# EAGLE library part MRF206 (library switch-nkk)
Rotary Switch 6 Pos, 2 Pole
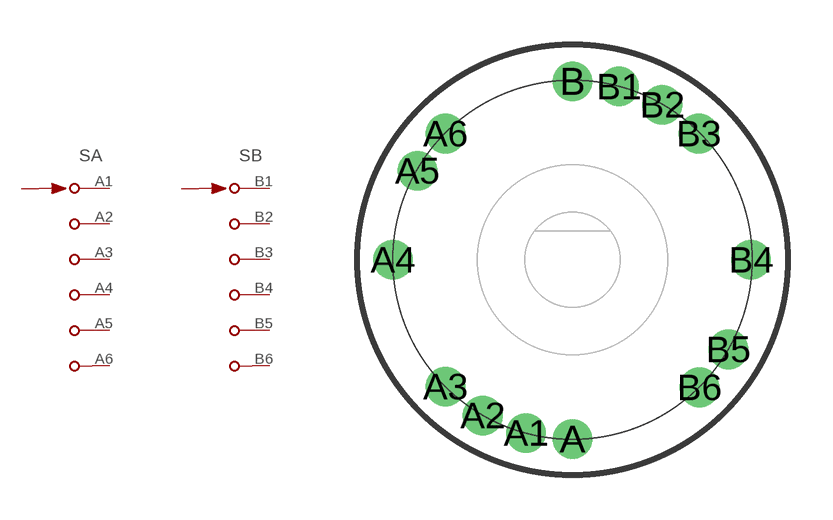
[diagram p1: symbol with the pads of MRF206; footprint MRF206]

Designator prefix S; gates A=SW-6POL B=SW-6POL

## MRF206  [MRF206]
A  A:COM  pas
A1  A:1  pas
A2  A:2  pas
A3  A:3  pas
A4  A:4  pas
A5  A:5  pas
A6  A:6  pas
B  B:COM  pas
B1  B:1  pas
B2  B:2  pas
B3  B:3  pas
B4  B:4  pas
B5  B:5  pas
B6  B:6  pas

## Footprint MRF206 (pad centres in mm)
Rotary Switch Double Pole, 6 Position
drill 0.813: A 0,-5.994; A1 -1.549,-5.791; A2 -2.997,-5.207; A3 -4.242,-4.242; A4 -5.994,0; A5 -5.182,2.972; A6 -4.242,4.216; B 0,5.969; B1 1.549,5.791; B2 2.997,5.182; B3 4.216,4.216; B4 5.969,0; B5 5.207,-2.997; B6 4.242,-4.267